# Altium schematic symbol library PTC_0.Schlib: 1 symbol
Pins are listed as number, name and electrical type; pins without a type are passive.

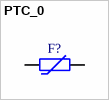
[diagram p0: symbol PTC_0]

## PTC_0
designator F?  (value not drawn)
Positive Temperature Coefficient resettable fuse
pins: 1, 2